# Altium footprint library Lab11.PcbLib: 4 footprints
Each footprint in its own frame and in the unit in brackets; x right, y up, seen from the top. Pads: shape width x height; smd on the part's side, far side on the other; paste and mask are expansions set on the pad; w line width, h text height; cw(c..) or ccw(c..) is an arc to the next point about the centre after c.
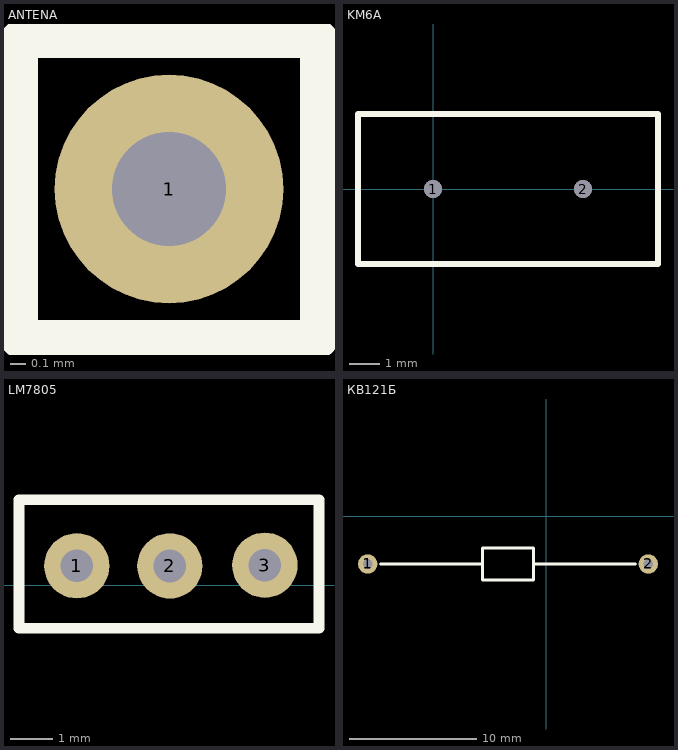
[diagram p0: the footprints below, top view; thin cyan lines are the x and y axes]

## ANTENA [mil]
pads (1):
  round 60 hole 30: 1(-354.33,157.48)
Top Overlay:
  lines w10: -393.7,118.11 -393.7,196.85 -314.96,196.85 -314.96,118.11 -393.7,118.11

## KM6A [mm]
height 6
pads (2):
  round 0.6 hole 0.6: 1(0,0) 2(5,0)
Top Overlay:
  lines w0.2: -2.5,-2.5 0,-2.5 5,-2.5 7.5,-2.5 7.5,2.5 5,2.5 0,2.5 -2.5,2.5 -2.5,-2.5

## LM7805 [mil]
height 590.55
pads (3):
  round 60 hole 30: 1(-301.18,18) 2(-215.76,17.92) 3(-128.46,18.6)
Top Overlay:
  lines w10: -354.33,-39.37 -354.33,78.74 -78.74,78.74 -78.74,-39.37 -354.33,-39.37

## КВ121Б [mil]
height 114.17
pads (2):
  round 60 hole 30: 1(-551.18,-147.64) 2(314.96,-147.64)
Top Overlay:
  lines w10: -511.81,-147.64 -196.85,-147.64 ; -39.37,-147.64 275.59,-147.64 ; -196.85,-196.85 -196.85,-98.43 -39.37,-98.43 -39.37,-196.85 -196.85,-196.85